# Altium footprint library sod_323_257x130x114.PcbLib: 1 footprints
Each footprint in its own frame and in the unit in brackets; x right, y up, seen from the top. Pads: shape width x height; smd on the part's side, far side on the other; paste and mask are expansions set on the pad; w line width, h text height; cw(c..) or ccw(c..) is an arc to the next point about the centre after c.
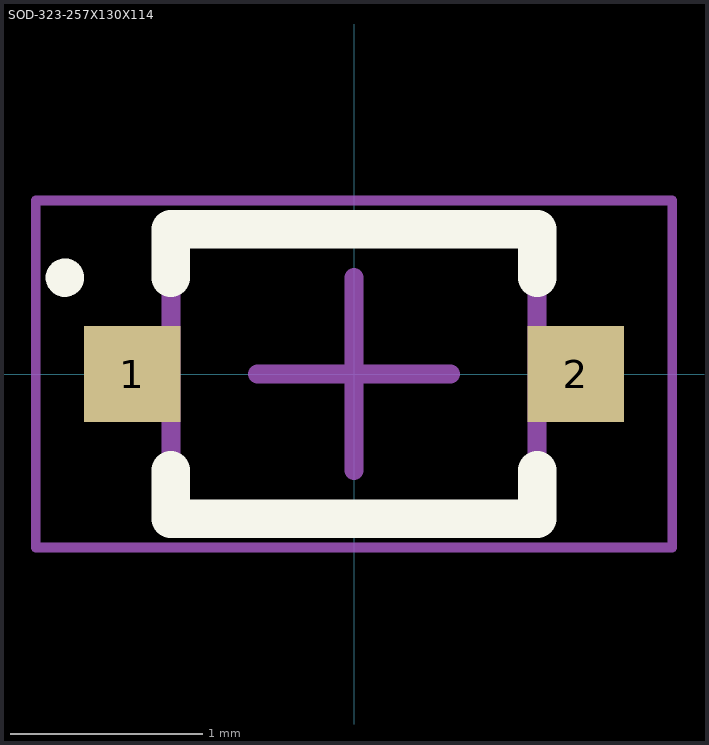
[diagram p0: the footprint, top view; thin cyan lines are the x and y axes]

## SOD-323-257X130X114 [mm] "SOD, 2-Leads, Body 2,57x1,30mm, IPC Medium Density"
height 1.14
pads (2):
  rect 0.5x0.5 smd: 1(-1.15,0) 2(1.15,0)
Top Overlay:
  circle w0.1: c-1.5,0.5 r0.05
  lines w0.2: -0.95,-0.5 -0.95,-0.75 0.95,-0.75 0.95,-0.5 ; -0.95,0.5 -0.95,0.75 0.95,0.75 0.95,0.5
Top Comment:
  text ".Comment" at 1,1.2 h1.2
Top Designator:
  text ".Designator" at -0.5,1.2 h1.2
Top Component Outline:
  lines w0.1: -0.95,-0.725 0.95,-0.725 0.95,0.725 -0.95,0.725 -0.95,-0.725
Top Courtyard (Mech15):
  lines w0.05: -1.651,-0.9 1.651,-0.9 1.651,0.9 -1.651,0.9 -1.651,-0.9
  lines w0.1: -0.5,0 0.5,0 ; 0,-0.5 0,0.5
3D body "User Library-SOD323-1.STEP": height 1.1, standoff 0, extent -1.3,-0.675 1.3,0.675